# Altium footprint library PCB - LEADLESS - DFN - ST DFN8 4x4MM.PcbLib: 1 footprints
Each footprint in its own frame and in the unit in brackets; x right, y up, seen from the top. Pads: shape width x height; smd on the part's side, far side on the other; paste and mask are expansions set on the pad; w line width, h text height; cw(c..) or ccw(c..) is an arc to the next point about the centre after c.
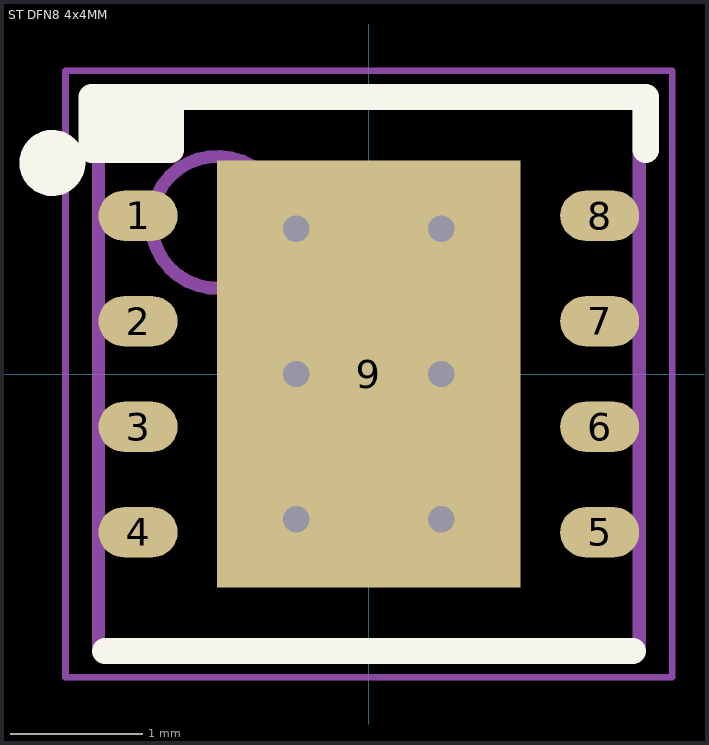
[diagram p0: the footprint, top view; thin cyan lines are the x and y axes]

## ST DFN8 4x4MM [mm] "DFN, 8-Leads, Body 4.00x4.00mm, Pitch 0.80mm, Thermal Pad 2.30x3.24mm"
height 1
pads (9):
  oval 0.6x0.38 smd: 1(-1.75,1.2) 2(-1.75,0.4) 3(-1.75,-0.4) 4(-1.75,-1.2) 5(1.75,-1.2) 6(1.75,-0.4) 7(1.75,0.4) 8(1.75,1.2)
  rect 2.3x3.24 smd: 9(0,0)
via -0.55,1.1 diameter 0.5 hole 0.2
via 0.55,1.1 diameter 0.5 hole 0.2
via -0.55,0 diameter 0.5 hole 0.2
via 0.55,0 diameter 0.5 hole 0.2
via -0.55,-1.1 diameter 0.5 hole 0.2
via 0.55,-1.1 diameter 0.5 hole 0.2
Top Overlay:
  circle w0.25: c-2.4,1.6 r0.125
  rectangle: -2.1,1.7 -1.5,2.1
  lines w0.2: -2,-2.1 2,-2.1 ; -1.5,2.1 -1.5,1.7 -2.1,1.7 -2.1,2.1 2.1,2.1 2.1,1.7
Mechanical 13:
  circle w0.1: c-1.15,1.15 r0.5
  lines w0.1: -2.05,-2.05 -2.05,2.05 2.05,2.05 2.05,-2.05 -2.05,-2.05
Mechanical 15:
  lines w0.05: -2.3,-2.3 -2.3,2.3 2.3,2.3 2.3,-2.3 -2.3,-2.3
  lines w0.1: -0.5,0 0.5,0 ; 0,-0.5 0,0.5
3D body "ST DFN8 4x4MM.step": height 1, standoff 0, extent -2.06,-2.05 2.06,2.05